# Altium footprint library 杂项库.PcbLib: 585 footprints (part 10 of 37)
Each footprint in its own frame and in the unit in brackets; x right, y up, seen from the top. Pads: shape width x height; smd on the part's side, far side on the other; paste and mask are expansions set on the pad; w line width, h text height; cw(c..) or ccw(c..) is an arc to the next point about the centre after c.
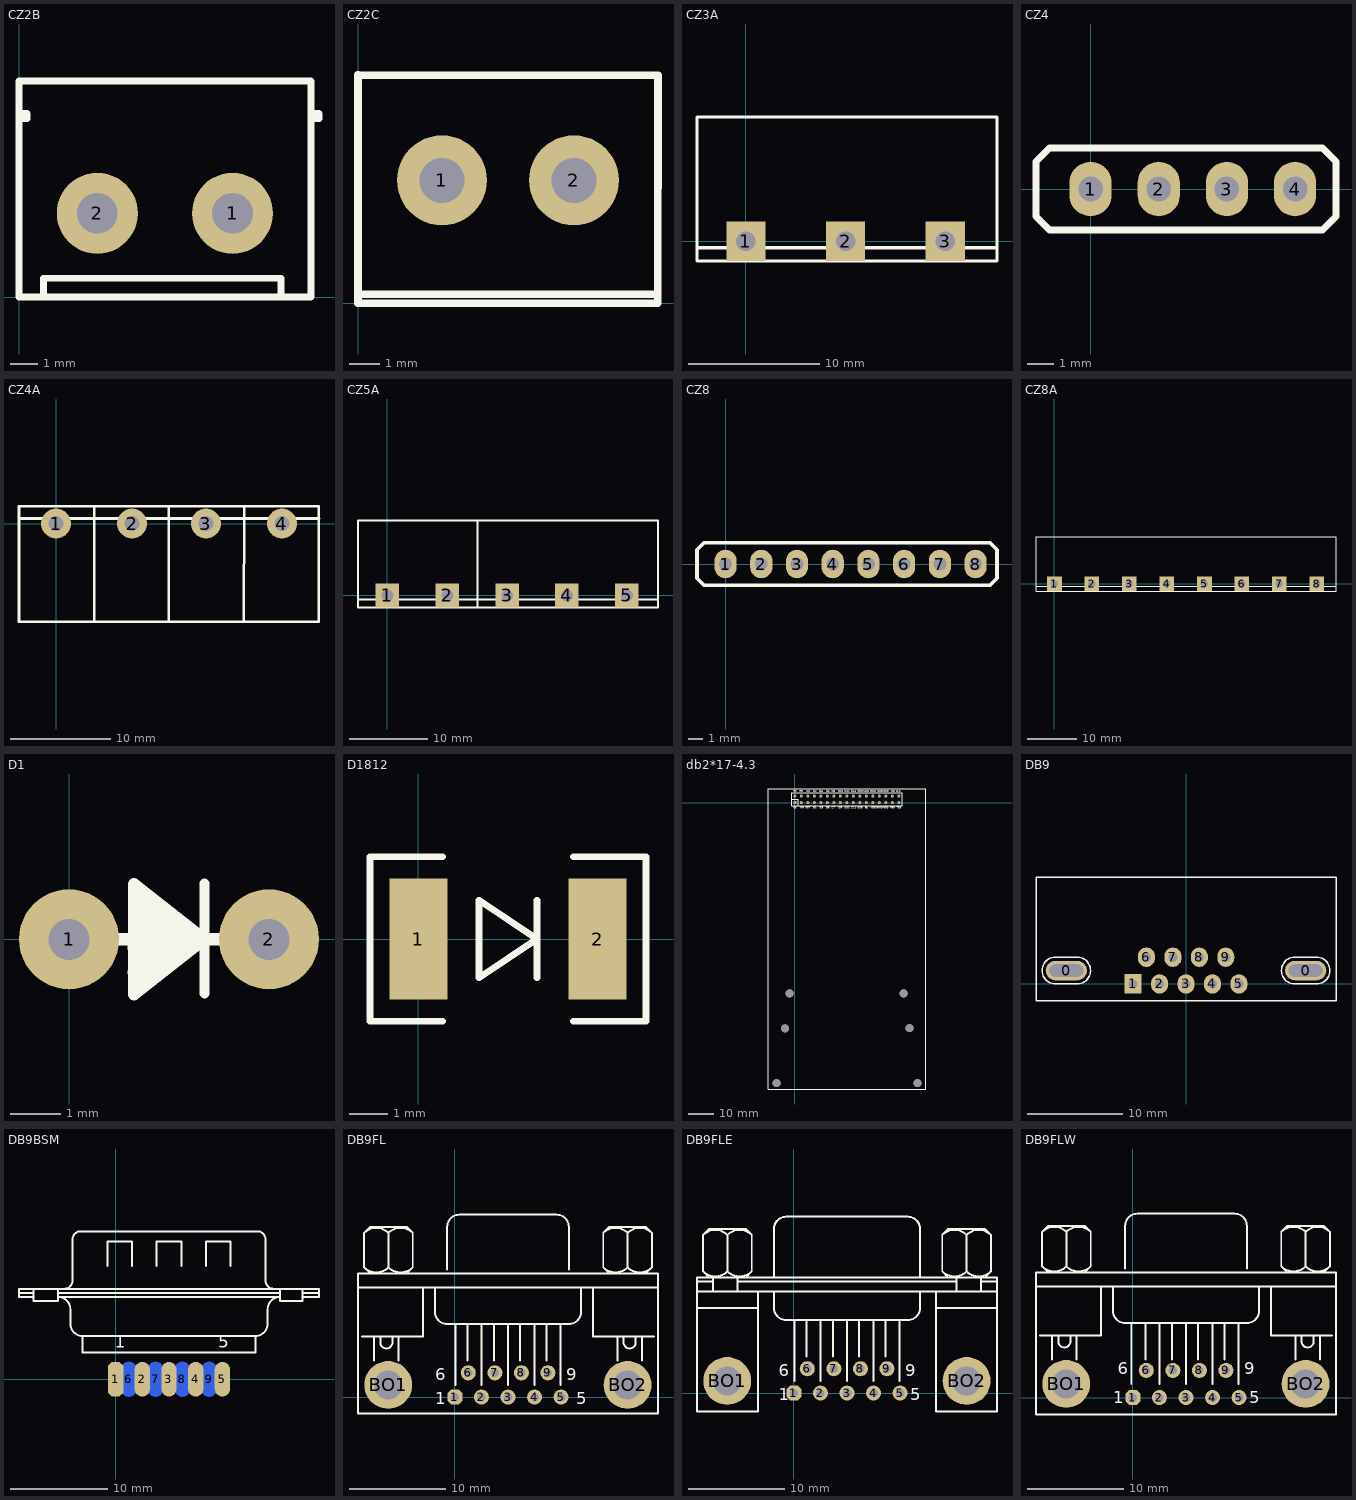
[diagram p9: the footprints below, top view; thin cyan lines are the x and y axes]

## CZ2B [mm]
pads (2):
  round 3 hole 1.5: 1(7.9,3.1) 2(2.9,3.1)
Top Overlay:
  lines w0.254: 0,6.8 0.3,6.8 0.3,6.6 0.1,6.6 ; 0.9,0 0.9,0.7 9.7,0.7 9.7,0 ; 10.8,6.6 11.1,6.6 11.1,6.8 11,6.8 10.8,6.8 ; 0,0 10.8,0 10.8,8 0,8 0,0

## CZ2C [mm]
pads (2):
  round 3 hole 1.5: 1(2.8,4.1) 2(7.2,4.1)
Top Overlay:
  lines w0.254: 0,0.3 10,0.3 ; 0,0 0,7.62 0.02,7.6 10.005,7.607 10,0 0,0

## CZ3A [mm]
pads (3):
  rect 3x3 hole 1.5: 1(0,0) 2(7.62,0) 3(15.24,0)
Top Overlay:
  lines w0.254: -3.74,-0.5 19.2,-0.5 ; -3.74,-1.5 19.2,-1.5 19.2,9.5 -3.74,9.5 -3.74,-1.5

## CZ4 [mil]
pads (4):
  oval 62x80 hole 36: 1(0,0) 2(100,0) 3(200,0) 4(300,0)
Top Overlay:
  lines w10: -80,-40 -80,40 -60,60 -40,60 340,60 360,40 360,-40 340,-60 -60,-60 -80,-40

## CZ4A [mm]
pads (4):
  round 3 hole 1.5: 1(0,0) 2(7.6,0) 3(14.986,0) 4(22.586,0)
Top Overlay:
  lines w0.254: -3.7,0.5 11.3,0.5 ; 3.8,-9.8 3.806,1.708 ; 11.286,0.5 26.286,0.5 ; 18.786,-9.8 18.792,1.708 ; -3.7,-9.8 -3.7,1.708 11.264,1.708 11.264,-9.8 -3.7,-9.8 ; 11.286,-9.8 11.286,1.708 26.25,1.708 26.25,-9.8 11.286,-9.8

## CZ5A [mm]
pads (5):
  rect 3x3 hole 1.5: 1(0,0) 2(7.62,0) 3(15.24,0) 4(22.82,0) 5(30.44,0)
Top Overlay:
  lines w0.254: -3.74,-0.5 19.2,-0.5 ; 11.46,-0.5 34.4,-0.5 ; 19.2,-1.5 -3.74,-1.5 -3.74,9.5 19.2,9.5 ; 11.46,-1.5 34.4,-1.5 34.4,9.5 11.46,9.5 11.46,-1.5

## CZ8 [mil]
pads (8):
  oval 62x80 hole 36: 1(0,0) 2(100,0) 3(200,0) 4(300,0) 5(400,0) 6(500,0) 7(600,0) 8(700,0)
Top Overlay:
  lines w10: -80,-40 -80,40 -60,60 -40,60 740,60 760,40 760,-40 740,-60 -60,-60 -80,-40

## CZ8A [mm]
pads (8):
  rect 3x3 hole 1.5: 1(0,0) 2(7.62,0) 3(15.24,0) 4(22.86,0) 5(30.5,0) 6(38.12,0) 7(45.74,0) 8(53.36,0)
Top Overlay:
  lines w0.254: -3.74,-0.5 57.26,-0.5 ; -3.74,-1.5 -3.74,9.5 57.26,9.5 57.26,-1.5 -3.74,-1.5

## D1 [mm]
pads (2):
  round 2 hole 0.82: 1(0,0) 2(4,0)
Top Overlay:
  lines w0.2: 2.709,-1.09 2.709,1.11
  lines w0.25: 0.4,0 1.3,0 ; 3.61,0 2.7,0 ; 2.7,0 1.3,1.1 1.3,-1.1 2.7,0
  lines w0.254: 1.638,0.305 1.511,0.305 1.612,0.203 2.273,0.203 2.298,0.229 2.12,0.229 2.095,0.203 1.511,0.787 1.511,0.508 ; 1.866,0.203 1.562,0.508 1.511,0.508 ; 2.425,0 1.3,0 1.3,-0.178 1.351,-0.229 2.374,-0.229 2.247,-0.229 1.993,-0.483 1.478,-0.483 ; 1.478,-0.483 1.3,-0.66 1.714,-0.66 1.511,-0.864 1.325,-0.864 1.478,-0.711 1.478,-0.483 ; 1.478,-0.483 1.511,-0.45 1.511,0.508

## D1812 [mil]
pads (2):
  rect 60x125 smd: 1(0,0) 2(185,0)
Top Overlay:
  lines w7: 25,-85 -50,-85 -50,85 25,85 ; 122.5,-40 122.5,40 ; 160,-85 235,-85 235,85 160,85 ; 62.5,-40 122.5,0 62.5,40 62.5,-40

## db2*17-4.3 [mm]
pads (40):
  rect 1.2x1.2 hole 0.7: 1(-0.002,0.006)
  round 1.2 hole 0.7: 2(-0.002,2.546) 3(2.538,0.006) 4(2.538,2.546) 5(5.08,0) 6(5.078,2.546) 7(7.62,0) 8(7.62,2.54) 9(10.158,0.006) 10(10.158,2.546) 11(12.698,0.006) 12(12.698,2.546) 13(15.238,0.006) 14(15.238,2.546) 15(17.778,0.006) 16(17.778,2.546) 17(20.318,0.006) 18(20.318,2.546) 19(22.858,0.006) 20(22.858,2.546) 21(25.398,0.006) 22(25.398,2.546) 23(27.938,0.006) 24(27.938,2.546) 25(30.478,0.006) 26(30.478,2.546) 27(33.018,0.006) 28(33.018,2.546) 29(35.558,0.006) 30(35.558,2.546) 31(38.098,0.006) 32(38.098,2.546) 33(40.638,0.006) 34(40.638,2.546)
  round 3.1 hole 3.1: ""(-7.125,-109.596) ""(-3.81,-88.18) ""(-2.037,-74.525) ""(42.54,-74.525) ""(44.82,-88.12) ""(47.925,-109.596)
Top Overlay:
  lines w0.203: -1.27,1.27 1.27,1.27 1.27,-1.23 1.32,-1.28 -1.26,-1.28 -1.27,-1.27 -1.27,3.82 41.91,3.82 41.91,-1.26 ; 1.21,-1.28 41.91,-1.28 ; 41.91,-1.25 41.91,-0.95
  lines w0.254: -10.403,5.334 -10.403,-111.887 51.192,-111.887 51.192,5.334 ; -10.38,5.334 51.17,5.334
  text "D7" at 14.351,-2.286 h0.71
  text "BL" at 27.559,-2.286 h0.71
  text "MISO" at 34.29,-2.286 h0.71
  text "TCS" at 39.751,-2.286 h0.71
  text "MO" at 37.65,4.1 h0.71
  text "MOSI" at 34.4,4.1 h0.71
  text "CLK" at 39.65,4.1 h0.71
  text "PEN" at 37.211,-2.286 h0.71
  text "D11" at 19.558,-2.286 h0.71
  text "GND" at 32.004,-2.286 h0.71
  text "GND" at 24.525,4.1 h0.71
  text "RD" at 2.025,4.1 h0.71
  text "D0" at 4.65,4.1 h0.71
  text "D10" at 16.9,4.1 h0.71
  text "VDD" at 27.025,4.1 h0.71
  text "GND" at 29.525,4.1 h0.71
  text "VDD" at 32.15,4.1 h0.71
  text "VDD" at 29.591,-2.286 h0.71
  text "D15" at 24.638,-2.286 h0.71
  text "D12" at 19.525,4.1 h0.71
  text "D13" at 22.025,-2.296 h0.71
  text "D9" at 17.145,-2.286 h0.71
  text "D8" at 14.4,4.1 h0.71
  text "D6" at 12.275,4.1 h0.71
  text "D5" at 12.192,-2.286 h0.71
  text "D4" at 9.65,4.1 h0.71
  text "D3" at 9.652,-2.286 h0.71
  text "D2" at 7.15,4.1 h0.71
  text "D1" at 7.239,-2.286 h0.71
  text "RST" at 4.191,-2.286 h0.71
  text "WR" at 2.032,-2.286 h0.71
  text "CS" at -0.508,-2.286 h0.71
  text "RS" at -0.475,4.1 h0.71
  text "D14" at 22.025,4.1 h0.71
  text "BL" at 27.557,-2.28 h0.71
  text "MISO" at 34.288,-2.28 h0.71
  text "TCS" at 39.749,-2.28 h0.71
  text "MO" at 37.648,4.106 h0.71
  text "MOSI" at 34.398,4.106 h0.71
  text "CLK" at 39.648,4.106 h0.71
  text "PEN" at 37.209,-2.28 h0.71
  text "D11" at 19.556,-2.28 h0.71
  text "GND" at 32.002,-2.28 h0.71
  text "GND" at 24.523,4.106 h0.71
  text "RD" at 2.023,4.106 h0.71
  text "D0" at 4.648,4.106 h0.71
  text "D10" at 16.898,4.106 h0.71
  text "VDD" at 27.023,4.106 h0.71
  text "GND" at 29.523,4.106 h0.71
  text "VDD" at 32.148,4.106 h0.71
  text "VDD" at 29.589,-2.28 h0.71
  text "D15" at 24.636,-2.28 h0.71
  text "D12" at 19.523,4.106 h0.71
  text "D9" at 17.143,-2.28 h0.71
  text "D8" at 14.398,4.106 h0.71
  text "D6" at 12.273,4.106 h0.71
  text "D5" at 12.19,-2.28 h0.71
  text "D4" at 9.648,4.106 h0.71
  text "D3" at 9.65,-2.28 h0.71
  text "D2" at 7.148,4.106 h0.71
  text "D1" at 7.237,-2.28 h0.71
  text "RST" at 4.189,-2.28 h0.71
  text "WR" at 2.03,-2.28 h0.71
  text "CS" at -0.51,-2.28 h0.71
  text "RS" at -0.477,4.106 h0.71
  text "D14" at 22.023,4.106 h0.71

## DB9 [mil]
pads (11):
  oval 170x80 hole 50 slot 140 at 0 deg: 0(-493,55) 0(493,55)
  rect 70x80 hole 38: 1(-218,0)
  oval 70x80 hole 38: 2(-109,0) 3(0,0) 4(109,0) 5(218,0) 6(-163,110) 7(-54,110) 8(55,110) 9(164,110)
Top Overlay:
  lines w6: -618,-70 618,-70 618,440 -618,440 -618,-70 ; -538,0 cw(c-538,55) -538,110 -448,110 cw(c-448,55) -448,0 -538,0 ; 448,0 cw(c448,55) 448,110 538,110 cw(c538,55) 538,0 448,0

## DB9BSM [mil]
pads (9):
  oct 62.5x141.67 smd: 1(0,0)
  oval 62.5x141.67 smd: 2(108.33,0) 3(216.67,0) 4(325,0) 5(433.33,0)
  oval 62.5x141.67 smd far side: 6(54.17,0) 7(162.5,0) 8(270.83,0) 9(379.17,0)
Top Overlay:
  lines w8: -391.67,350 -333.33,350 ; -333.33,333.33 -391.67,333.33 -391.67,366.67 825,366.67 825,333.33 758.33,333.33 ; -333.33,366.67 -333.33,316.67 -233.33,316.67 -233.33,366.67 ; -233.33,350 666.67,350 ; -208.33,366.67 ccw(c-208.33,400) -175,400 -175,566.67 cw(c-141.67,566.67) -141.67,600 575,600 cw(c575,566.67) 608.33,566.67 608.33,400 ccw(c641.67,400) 641.67,366.67 ; -33.33,458.33 -33.33,558.33 66.67,558.33 66.67,458.33 ; 166.67,458.33 166.67,558.33 266.67,558.33 266.67,458.33 ; 366.67,458.33 366.67,558.33 466.67,558.33 466.67,458.33 ; 666.67,366.67 666.67,316.67 758.33,316.67 758.33,366.67 ; 758.33,350 825,350 ; -133.33,175 cw(c-133.33,225) -183.33,225 -183.33,283.33 ccw(c-233.33,283.33) -233.33,333.33 666.67,333.33 ccw(c666.67,283.33) 616.67,283.33 616.67,225 cw(c566.67,225) 566.67,175 ; -133.33,175 566.67,175 ; -133.33,175 -133.33,108.33 566.67,108.33 566.67,175
  text "5" at 416.67,128.33 h50
  text "1" at -3.33,128.33 h50

## DB9FL [mil]
pads (11):
  oct 62x62 hole 35: 1(0,0)
  round 62 hole 35: 2(109.17,0) 3(218.33,0) 4(327.5,0) 5(436.67,0) 6(55,100) 7(164.17,100) 8(273.33,100) 9(382.5,100)
  round 196.67 hole 118.33: BO1(-274.17,50) BO2(710,50)
Top Overlay:
  lines w8: -398.33,450 835,450 ; -381.67,250 -131.67,250 -131.67,450 ; -373.42,533.25 ccw(c-323.33,583.33) -273.25,533.25 ; -373.42,675.09 cw(c-323.33,625) -273.25,675.09 ; -348.33,508.33 -373.33,533.33 -373.33,675 -348.33,700 -198.33,700 -173.33,675 -173.33,533.33 -198.33,508.33 ; -331.67,150 -331.67,250 ; -306.67,250 -306.67,225 ccw(c-281.67,225) -256.67,225 -256.67,250 ; -273.42,533.25 ccw(c-223.33,583.33) -173.25,533.25 ; -273.42,675.09 cw(c-223.33,625) -173.25,675.09 ; -273.33,533.33 -273.33,675 ; -231.67,150 -231.67,250 ; -81.67,450 -81.67,350 ccw(c-31.67,350) -31.67,300 468.33,300 ccw(c468.33,350) 518.33,350 518.33,450 ; -31.67,525 -31.67,700 cw(c18.33,700) 18.33,750 418.33,750 cw(c418.33,700) 468.33,700 468.33,525 ; 1.67,50 1.67,300 ; 51.67,150 51.67,300 ; 110,50 110,300 ; 160,150 160,300 ; 218.33,50 218.33,300 ; 268.33,150 268.33,300 ; 326.67,50 326.67,300 ; 376.67,150 376.67,300 ; 435,50 435,300 ; 568.33,450 568.33,250 818.33,250 ; 609.91,533.25 ccw(c660,583.33) 710.09,533.25 ; 609.91,675.09 cw(c660,625) 710.09,675.09 ; 635,508.33 610,533.33 610,675 635,700 785,700 810,675 810,533.33 785,508.33 ; 668.33,150 668.33,250 ; 693.33,250 693.33,225 ccw(c718.33,225) 743.33,225 743.33,250 ; 709.91,533.25 ccw(c760,583.33) 810.09,533.25 ; 709.91,675.09 cw(c760,625) 810.09,675.09 ; 710,533.33 710,675 ; 768.33,150 768.33,250 ; -398.33,-66.67 835,-66.67 835,508.33 -398.33,508.33 -398.33,-66.67
  text "9" at 458.33,70 h50
  text "5" at 498.33,-30 h50
  text "1" at -81.67,-30 h50
  text "6" at -81.67,70 h50

## DB9FLE [mil]
pads (11):
  oct 62x62 hole 35: 1(0,0)
  round 62 hole 35: 2(109.17,0) 3(218.33,0) 4(327.5,0) 5(436.67,0) 6(55,100) 7(164.17,100) 8(273.33,100) 9(382.5,100)
  round 196.67 hole 118.33: BO1(-274.17,50) BO2(710,50)
Top Overlay:
  lines w8: -398.33,350 -148.33,350 ; -398.33,416.67 835,416.67 ; -398.33,458.33 -331.67,458.33 ; -373.42,499.91 ccw(c-323.33,550) -273.25,499.91 ; -373.42,650.09 cw(c-323.33,600) -273.25,650.09 ; -348.33,475 -373.33,500 -373.33,650 -348.33,675 -198.33,675 -173.33,650 -173.33,500 -198.33,475 ; -331.67,416.67 -331.67,475 ; -273.42,499.91 ccw(c-223.33,550) -173.25,499.91 ; -273.42,650.09 cw(c-223.33,600) -173.25,650.09 ; -273.33,500 -273.33,650 ; -231.67,416.67 -231.67,475 ; -231.67,458.33 668.33,458.33 ; -148.33,416.67 -148.33,-75 -398.33,-75 -398.33,475 835,475 835,-75 585,-75 585,416.67 ; -81.67,416.67 -81.67,350 ccw(c-31.67,350) -31.67,300 468.33,300 ccw(c468.33,350) 518.33,350 518.33,416.67 ; -81.67,475 -81.67,675 cw(c-31.67,675) -31.67,725 468.33,725 cw(c468.33,675) 518.33,675 518.33,475 ; 1.67,50 1.67,300 ; 51.67,150 51.67,300 ; 110,50 110,300 ; 160,150 160,300 ; 218.33,50 218.33,300 ; 268.33,150 268.33,300 ; 326.67,50 326.67,300 ; 376.67,150 376.67,300 ; 435,50 435,300 ; 585,350 835,350 ; 609.91,499.91 ccw(c660,550) 710.09,499.91 ; 609.91,650.09 cw(c660,600) 710.09,650.09 ; 635,475 610,500 610,650 635,675 785,675 810,650 810,500 785,475 ; 668.33,416.67 668.33,475 ; 709.91,499.91 ccw(c760,550) 810.09,499.91 ; 709.91,650.09 cw(c760,600) 810.09,650.09 ; 710,500 710,650 ; 768.33,416.67 768.33,475 ; 768.33,458.33 835,458.33
  text "6" at -61.67,70 h50
  text "1" at -61.67,-30 h50
  text "5" at 478.33,-30 h50
  text "9" at 458.33,70 h50

## DB9FLW [mil]
pads (11):
  oct 62x62 hole 35: 1(0,0)
  round 62 hole 35: 2(109.17,0) 3(218.33,0) 4(327.5,0) 5(436.67,0) 6(55,111.67) 7(164.17,111.67) 8(273.33,111.67) 9(382.5,111.67)
  round 196.67 hole 118.33: BO1(-274.17,55.83) BO2(710,55.83)
Top Overlay:
  lines w8: -398.33,455.83 835,455.83 ; -381.67,255.83 -131.67,255.83 -131.67,455.83 ; -373.42,539.08 ccw(c-323.33,589.17) -273.25,539.08 ; -373.42,680.92 cw(c-323.33,630.83) -273.25,680.92 ; -348.33,514.17 -373.33,539.17 -373.33,680.83 -348.33,705.83 -198.33,705.83 -173.33,680.83 -173.33,539.17 -198.33,514.17 ; -331.67,155.83 -331.67,255.83 ; -306.67,255.83 -306.67,230.83 ccw(c-281.67,230.83) -256.67,230.83 -256.67,255.83 ; -273.42,539.08 ccw(c-223.33,589.17) -173.25,539.08 ; -273.42,680.92 cw(c-223.33,630.83) -173.25,680.92 ; -273.33,539.17 -273.33,680.83 ; -231.67,155.83 -231.67,255.83 ; -81.67,455.83 -81.67,355.83 ccw(c-31.67,355.83) -31.67,305.83 468.33,305.83 ccw(c468.33,355.83) 518.33,355.83 518.33,455.83 ; -31.67,530.83 -31.67,705.83 cw(c18.33,705.83) 18.33,755.83 393.33,755.83 418.33,755.83 cw(c418.33,705.83) 468.33,705.83 468.33,530.83 ; -6.67,55.83 -6.67,305.83 ; 51.67,155.83 51.67,305.83 ; 110,55.83 110,305.83 ; 160,155.83 160,305.83 ; 218.33,55.83 218.33,305.83 ; 268.33,155.83 268.33,305.83 ; 326.67,55.83 326.67,305.83 ; 376.67,155.83 376.67,305.83 ; 435,55.83 435,305.83 ; 568.33,455.83 568.33,255.83 818.33,255.83 ; 609.91,539.08 ccw(c660,589.17) 710.09,539.08 ; 609.91,680.92 cw(c660,630.83) 710.09,680.92 ; 635,514.17 610,539.17 610,680.83 635,705.83 785,705.83 810,680.83 810,539.17 785,514.17 ; 668.33,155.83 668.33,255.83 ; 693.33,255.83 693.33,230.83 ccw(c718.33,230.83) 743.33,230.83 743.33,255.83 ; 709.91,539.08 ccw(c760,589.17) 810.09,539.08 ; 709.91,680.92 cw(c760,630.83) 810.09,680.92 ; 710,539.17 710,680.83 ; 768.33,155.83 768.33,255.83 ; -398.33,-69.17 -398.33,514.17 835,514.17 835,-69.17 -398.33,-69.17
  text "6" at -61.67,95.83 h50
  text "1" at -81.67,-24.17 h50
  text "5" at 478.33,-24.17 h50
  text "9" at 458.33,95.83 h50